# Altium footprint library RUT_xE310_PCB.PcbLib: 42 footprints (part 1 of 3)
Each footprint in its own frame and in the unit in brackets; x right, y up, seen from the top. Pads: shape width x height; smd on the part's side, far side on the other; paste and mask are expansions set on the pad; w line width, h text height; cw(c..) or ccw(c..) is an arc to the next point about the centre after c.
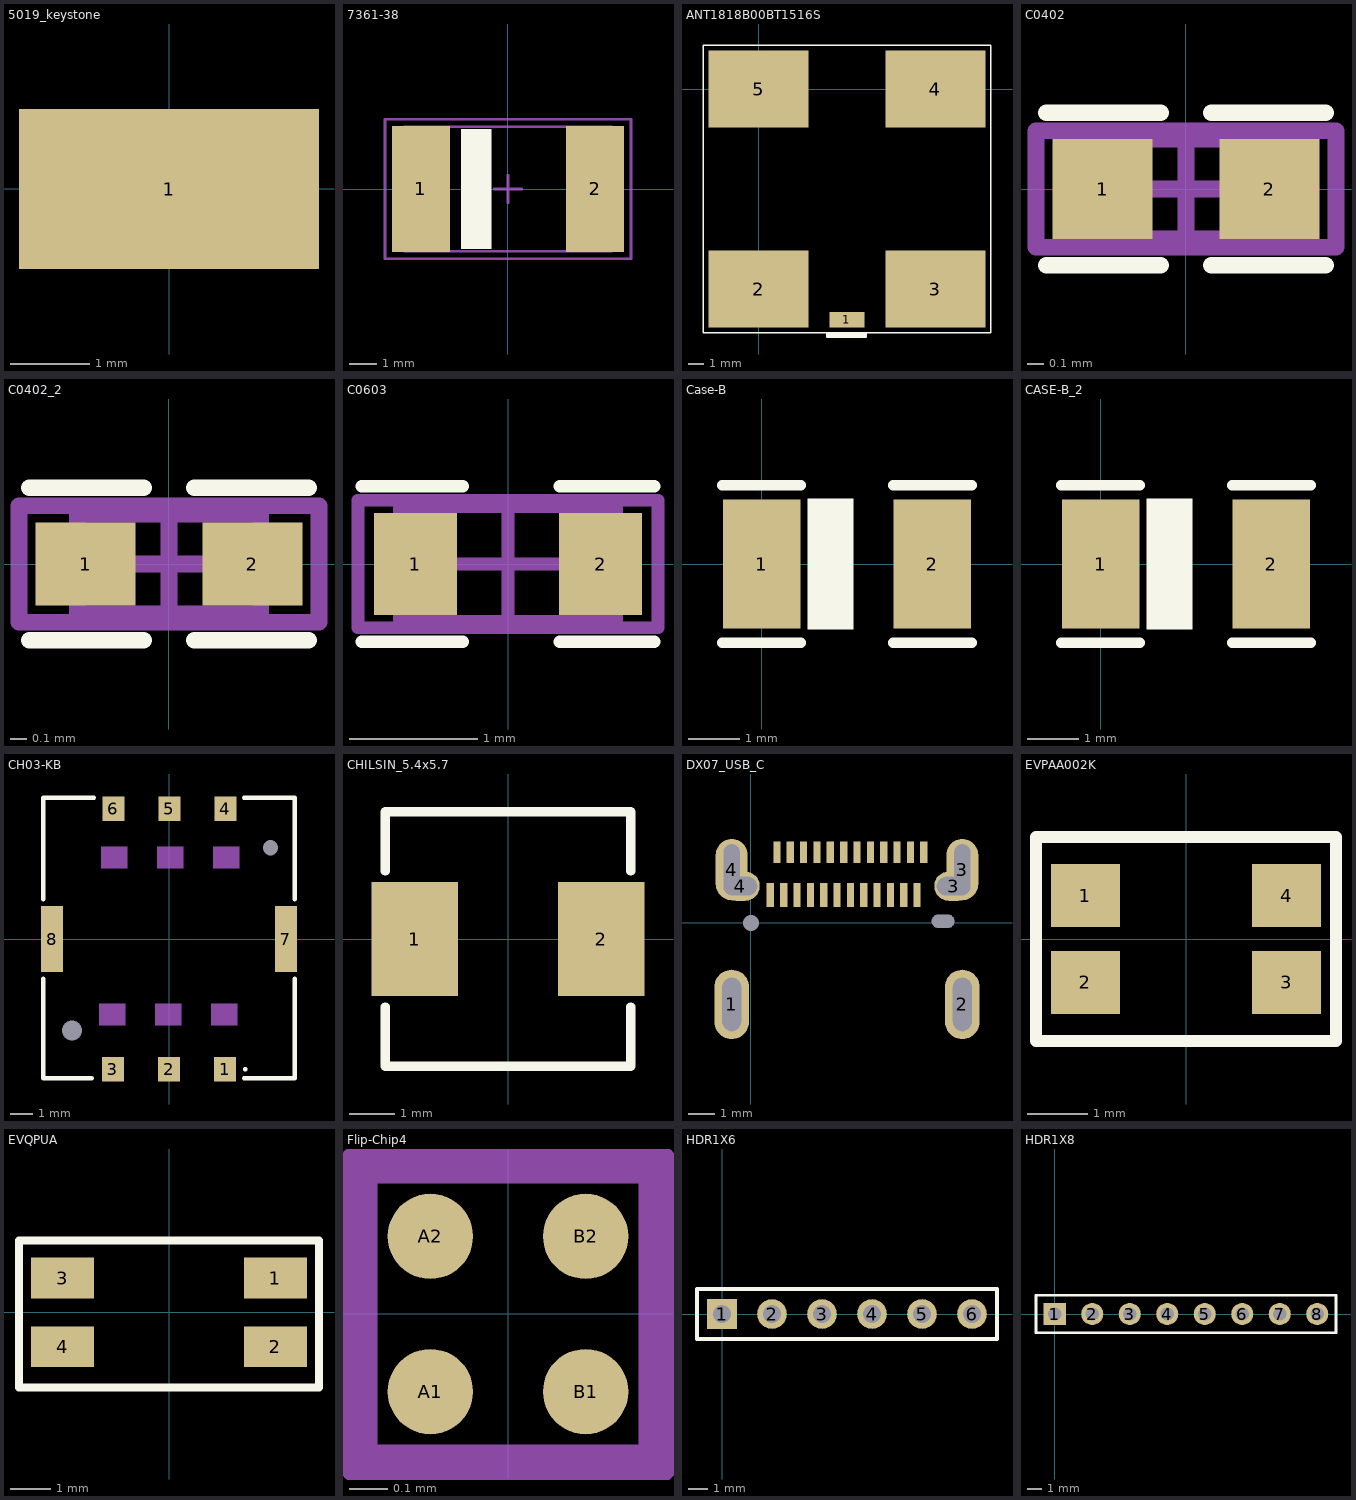
[diagram p0: the footprints below, top view; thin cyan lines are the x and y axes]

## 5019_keystone [mm] "Keystone Test Point 5019"
height 2.3
pads (1):
  rect 3.8x2.03 smd: 1(0,0)
3D body "User Library-User Library-Keystone_5019.step": height 2.29, standoff 0.01, extent -1.905,-1.015 1.905,1.015

## 7361-38 [mm]
height 3.8
pads (2):
  rect 2.1x4.55 smd: 1(-3.15,0.009) 2(3.15,0.009)
Top Overlay:
  rectangle: -1.7,-2.166 -0.6,2.184
Mechanical 13:
  lines w0.1: -3.75,-2.241 -3.75,2.259 3.75,2.259 3.75,-2.241 -3.75,-2.241
Mechanical 15:
  lines w0.1: -0.5,0.009 0.5,0.009 ; 0,-0.491 0,0.509 ; -4.45,-2.516 -4.45,2.534 4.45,2.534 4.45,-2.516 -4.45,-2.516
3D body "User Library-CT_V.step": height 3.45, standoff 0, extent -3.65,-3.05 3.65,3.05

## ANT1818B00BT1516S [mm] "Ceramic Patch Antenna"
height 4
pads (5):
  rect 2.3x1 smd: 1(5.75,-15)
  rect 6.5x5 smd: 2(0,-13) 3(11.5,-13) 4(11.5,0) 5(0,0)
Top Overlay:
  rectangle: 4.45,-16.15 7,-15.8
  lines w0.1: -3.6,-15.85 4.45,-15.85 4.45,-16.15 7,-16.15 7,-15.85 15.1,-15.85 15.1,2.85 -3.6,2.85 -3.6,-15.85
3D body: height 3.9, standoff 0, extent -3.25,-15.5 14.75,2.5
3D body: height 4, standoff 3.9, extent -2.25,-14.5 13.75,1.5
3D body: height 3.9, standoff 0, extent 4.6,-15.55 6.9,-15.5

## C0402 [mm] "Chip Capacitor, 2-Leads, Body 1,0x0,5mm, IPC High Density"
height 0.6
pads (2):
  rect 0.6x0.6 smd: 1(-0.5,0) 2(0.5,0)
Top Overlay:
  lines w0.1: -0.838,-0.457 -0.152,-0.457 ; -0.838,0.457 -0.152,0.457 ; 0.152,-0.457 0.838,-0.457 ; 0.152,0.457 0.838,0.457
Mechanical 13:
  lines w0.1: -0.55,-0.3 0.55,-0.3 0.55,0.3 -0.55,0.3 -0.55,-0.3
Mechanical 15:
  lines w0.1: -0.3,0 0.3,0 ; 0,-0.3 0,0.3 ; -0.9,-0.35 0.9,-0.35 0.9,0.35 -0.9,0.35 -0.9,-0.35
3D body "SW3dPS-0402 SMD Capacitor.STEP": height 0.2, standoff 0, extent -0.5,-0.3 0.5,0.3

## C0402_2 [mm]
pads (2):
  rect 0.6x0.5 smd: 1(-0.5,0) 2(0.5,0)
Top Overlay:
  lines w0.1: -0.838,-0.457 -0.152,-0.457 ; -0.838,0.457 -0.152,0.457 ; 0.152,-0.457 0.838,-0.457 ; 0.152,0.457 0.838,0.457
Mechanical 13:
  lines w0.1: -0.55,-0.3 -0.55,0.3 0.55,0.3 0.55,-0.3 -0.55,-0.3
Mechanical 15:
  lines w0.1: -0.3,0 0.3,0 ; 0,-0.3 0,0.3 ; -0.9,-0.35 -0.9,0.35 0.9,0.35 0.9,-0.35 -0.9,-0.35
3D body "SW3dPS-0402 SMD Capacitor.STEP": height 0.2, standoff 0, extent -0.5,-0.244 0.5,0.356

## C0603 [mm] "Chip Capacitor, 2-Leads, Body 1,6x0,8mm, IPC High Density"
height 1
pads (2):
  rect 0.65x0.8 smd: 1(-0.725,0) 2(0.725,0)
Top Overlay:
  lines w0.1: -1.143,-0.61 -0.356,-0.61 ; -1.143,0.61 -0.356,0.61 ; 0.406,-0.61 1.143,-0.61 ; 0.406,0.61 1.143,0.61
Mechanical 13:
  lines w0.1: -0.85,-0.45 -0.85,0.45 0.85,0.45 0.85,-0.45 -0.85,-0.45
Mechanical 15:
  lines w0.1: -0.45,0 0.45,0 ; 0,-0.45 0,0.45 ; -1.175,-0.5 -1.175,0.5 1.175,0.5 1.175,-0.5 -1.175,-0.5
3D body "SW3dPS-0603 SMD Capacitor.STEP": height 0.3, standoff 0, extent -0.8,-0.406 0.8,0.394

## Case-B [mm] "Tantalum capacitors standart case B"
height 2
pads (2):
  rect 1.5x2.5 smd: 1(0,0) 2(3.302,0)
Top Overlay:
  rectangle: 0.889,-1.27 1.778,1.27
  lines w0.2: -0.762,-1.524 0.762,-1.524 ; -0.762,1.524 0.762,1.524 ; 2.54,-1.524 4.064,-1.524 ; 2.54,1.524 4.064,1.524
3D body "Case B.STEP": height 2.14, standoff 0.04, extent -0.194,-1.397 3.496,1.423

## CASE-B_2 [mm]
pads (2):
  rect 1.5x2.5 smd: 1(0,0) 2(3.302,0)
Top Overlay:
  rectangle: 0.889,-1.27 1.778,1.27
  lines w0.2: -0.762,-1.524 0.762,-1.524 ; -0.762,1.524 0.762,1.524 ; 2.54,-1.524 4.064,-1.524 ; 2.54,1.524 4.064,1.524
3D body "Case B.STEP": height 2.14, standoff 0.04, extent -0.194,-1.397 3.496,1.423

## CH03-KB [mm] "Nano SIM Card Connector"
height 1.35
pads (10):
  rect 1x1.1 smd: 1(2.54,-5.9) 2(0,-5.9) 3(-2.54,-5.9) 4(2.56,5.91) 5(0.02,5.91) 6(-2.52,5.91)
  rect 1x3 smd: 7(5.3,0) 8(-5.3,0)
  round 0 hole 0.9 unplated: ""(-4.4,-4.15)
  round 0 hole 0.7 unplated: ""(4.6,4.15)
Top Overlay:
  circle w0.1: c3.46,-5.9 r0.05
  lines w0.2: -5.7,-1.8 -5.7,-6.3 -3.5,-6.3 ; -5.7,1.8 -5.7,6.2 -5.7,6.4 -3.4,6.4 ; 3.4,-6.3 5.7,-6.3 5.7,-1.8 ; 3.4,6.4 5.7,6.4 5.7,1.8
Mechanical 1:
  rectangle: -0.55,3.19 0.65,4.19
  rectangle: 1.99,3.19 3.19,4.19
  rectangle: -3.09,3.19 -1.89,4.19
  region: 3.11,-2.92 1.91,-2.92 1.91,-3.92 3.11,-3.92
  region: -1.97,-2.92 -3.17,-2.92 -3.17,-3.92 -1.97,-3.92
  region: 0.57,-2.92 -0.63,-2.92 -0.63,-3.92 0.57,-3.92
3D body "CH03-KB060-HAR_rev1.1.STEP": height 1.35, standoff -0.4, extent -5.43,-6.1 5.41,6.1

## CHILSIN_5.4x5.7 [mm]
height 1.8
pads (2):
  rect 1.9x2.5 smd: 1(-2.05,0) 2(2.05,0)
Top Overlay:
  lines w0.2: -2.7,-1.5 -2.7,-2.8 2.7,-2.8 2.7,-1.5 ; -2.7,1.5 -2.7,2.8 2.7,2.8 2.7,1.5
3D body: height 1.8, standoff 0.01, extent -2.7,-2.85 2.7,2.85

## DX07_USB_C [mm] "DX07S024JJ2R1300"
height 4.14
pads (32):
  oval 1.3x2.6 hole 0.7 slot 2 at 90 deg: 1(-0.72,-3.05) 2(7.92,-3.05)
  oval 1.45x1.1 hole 0.7 slot 1.25 at 0 deg: 3(7.594,1.38) 4(-0.394,1.38)
  oval 1.2x2.3 hole 0.6 slot 1.9 at 90 deg: 3(7.92,2) 4(-0.72,2)
  rect 0.27x0.8 smd: A1(0.975,2.649) A2(1.475,2.649) A3(1.975,2.649) A4(2.475,2.649) A5(2.975,2.649) A6(3.475,2.649) A7(3.975,2.649) A8(4.475,2.649) A9(4.975,2.649) A10(5.475,2.649) A11(5.975,2.649) A12(6.475,2.649)
  rect 0.27x0.9 smd: B1(6.227,1.049) B2(5.727,1.049) B3(5.227,1.049) B4(4.727,1.049) B5(4.227,1.049) B6(3.727,1.049) B7(3.227,1.049) B8(2.727,1.049) B9(2.227,1.049) B10(1.727,1.049) B11(1.227,1.049) B12(0.727,1.049)
  round 0 hole 0.6 unplated: ""(0,0)
  round 0 hole 0.5 slot 0.85 at 0 deg unplated: ""(7.2,0.065)
Mechanical 1:
  lines w0.1: 7.2,0 7.2,0.065
3D body "K3D-DX07S024JJ2-V1_JAE_Proprietary.STEP": height 3.17, standoff -0.6, extent -0.86,-5.345 8.08,2.825

## EVPAA002K [mm] "Light Touch Switches"
height 1.7
pads (4):
  rect 1.15x1.05 smd: 1(-1.675,0.725) 2(-1.675,-0.725) 3(1.675,-0.725) 4(1.675,0.725)
Top Overlay:
  lines w0.2: -2.5,-1.7 2.5,-1.7 2.5,1.7 -2.5,1.7 -2.5,-1.7
3D body "EVPAA-002K_202K_402W_602W_802Q.STEP": height 1.7, standoff 0, extent -2.15,-1.555 2.15,1.555

## EVQPUA [mm] "Light Touch Switches/EVQPU"
height 1.65
pads (4):
  rect 1.55x1 smd: 1(2.625,0.85) 2(2.625,-0.85) 3(-2.625,0.85) 4(-2.625,-0.85)
Top Overlay:
  lines w0.2: -3.7,-1.855 3.7,-1.855 3.7,1.78 -3.7,1.78 -3.7,-1.855
3D body "EVQPU-JA-02K.STEP": height 1.65, standoff 0, extent -3.2,-2.76 3.2,1.78

## Flip-Chip4 [mm]
height 0.56
pads (4):
  round 0.22 smd: A1(-0.2,-0.2) A2(-0.2,0.2) B1(0.2,-0.2) B2(0.2,0.2)
Mechanical 1:
  lines w0.1: -0.387,-0.387 0.386,-0.387 0.386,0.386 -0.387,0.386 -0.387,-0.387
3D body: height 0.2, standoff -0.02, extent -0.303,0.092 -0.09,0.309
3D body: height 0.2, standoff -0.02, extent 0.097,0.092 0.31,0.309
3D body: height 0.2, standoff -0.02, extent 0.1,-0.308 0.314,-0.092
3D body: height 0.2, standoff -0.02, extent -0.3,-0.308 -0.086,-0.091
3D body: height 0.36, standoff 0.11, extent -0.387,-0.387 0.386,0.386

## HDR1X6 [mm] "Connector; Header; 6 Position"
pads (6):
  rect 1.5x1.5 hole 0.9: 1(0,0)
  round 1.5 hole 0.9: 2(2.54,0) 3(5.08,0) 4(7.62,0) 5(10.16,0) 6(12.7,0)
Top Overlay:
  lines w0.2: -1.27,-1.27 13.97,-1.27 13.97,1.27 -1.27,1.27 -1.27,-1.27
3D body "User Library-SIL_Socket06_.STEP": height 8.5, standoff -10.46, extent -1.27,-1.27 13.97,1.27

## HDR1X8 [mm] "Connector; Header; 8 Position"
pads (8):
  rect 1.5x1.5 hole 0.9: 1(0,0)
  round 1.5 hole 0.9: 2(2.54,0) 3(5.08,0) 4(7.62,0) 5(10.16,0) 6(12.7,0) 7(15.24,0) 8(17.78,0)
Top Overlay:
  lines w0.2: -1.27,-1.27 19.05,-1.27 19.05,1.27 -1.27,1.27 -1.27,-1.27
3D body "User Library-SIL_Socket08_.STEP": height 8.5, standoff -10.46, extent -1.27,-1.27 19.05,1.27